# EAGLE library part INC. (library FRAM)
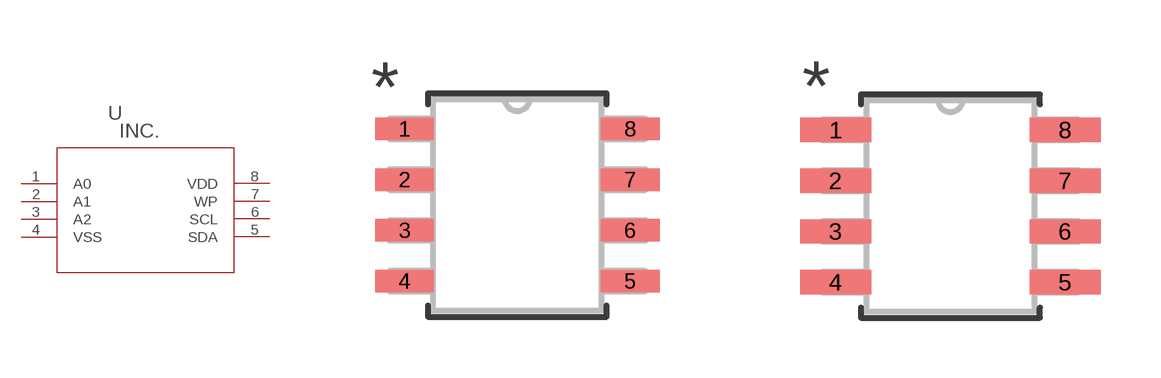
[diagram p0: symbol with the pads of FPT-8P-M02; footprints FPT-8P-M02, FPT-8P-M02-M]

Designator prefix U

## INC. (MANUFACTURER_PART_NUMBER: Inc.; VENDOR: Fujitsu Semiconductor)  [FPT-8P-M02]
1  A0  in
2  A1  in
3  A2  in
4  VSS  pwr
5  SDA  pas
6  SCL  in
7  WP  pas
8  VDD  pwr

## INC.FPT-8P-M02-M (MANUFACTURER_PART_NUMBER: Inc.; VENDOR: Fujitsu Semiconductor)  [FPT-8P-M02-M]
Pads as for FPT-8P-M02

## INC.FPT-8P-M02-L (MANUFACTURER_PART_NUMBER: Inc.; VENDOR: Fujitsu Semiconductor)  [FPT-8P-M02-L]
Pads as for FPT-8P-M02

## Footprint FPT-8P-M02 (pad centres in mm)
smd 1.473 x 0.559: 1 -2.819,1.905; 2 -2.819,0.635; 3 -2.819,-0.635; 4 -2.819,-1.905; 5 2.819,-1.905; 6 2.819,-0.635; 7 2.819,0.635; 8 2.819,1.905

## Footprint FPT-8P-M02-M (pad centres in mm)
smd 1.778 x 0.61: 1 -2.87,1.905; 2 -2.87,0.635; 3 -2.87,-0.635; 4 -2.87,-1.905; 5 2.87,-1.905; 6 2.87,-0.635; 7 2.87,0.635; 8 2.87,1.905

## Footprint FPT-8P-M02-L (pad centres in mm)
smd 1.168 x 0.508: 1 -2.769,1.905; 2 -2.769,0.635; 3 -2.769,-0.635; 4 -2.769,-1.905; 5 2.769,-1.905; 6 2.769,-0.635; 7 2.769,0.635; 8 2.769,1.905